# Altium schematic symbol library SCH - POWER - SWITCHMODE - TI TPS55065-Q1_PWP_20.SchLib: 1 symbol
Pins are listed as number, name and electrical type; pins without a type are passive.

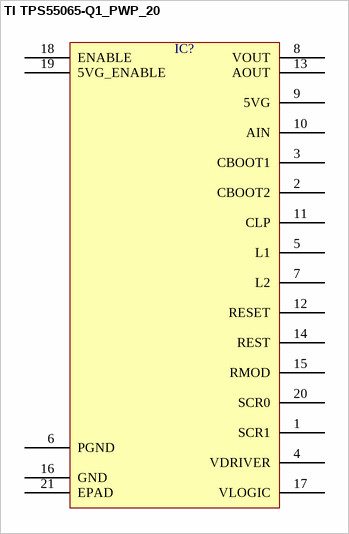
[diagram p0: symbol TI TPS55065-Q1_PWP_20]

## TI TPS55065-Q1_PWP_20
designator IC?  (value not drawn)
pins: 1 SCR1, 2 CBOOT2, 3 CBOOT1, 4 VDRIVER, 5 L1, 6 PGND, 7 L2, 8 VOUT, 9 5VG, 10 AIN, 11 CLP, 12 RESET, 13 AOUT, 14 REST, 15 RMOD, 16 GND, 17 VLOGIC, 18 ENABLE, 19 5VG_ENABLE, 20 SCR0, 21 EPAD